# Altium footprint library Res_Panasonic_ERJ-3EKF22R0V_eec_0.PcbLib: 1 footprints
Each footprint in its own frame and in the unit in brackets; x right, y up, seen from the top. Pads: shape width x height; smd on the part's side, far side on the other; paste and mask are expansions set on the pad; w line width, h text height; cw(c..) or ccw(c..) is an arc to the next point about the centre after c.
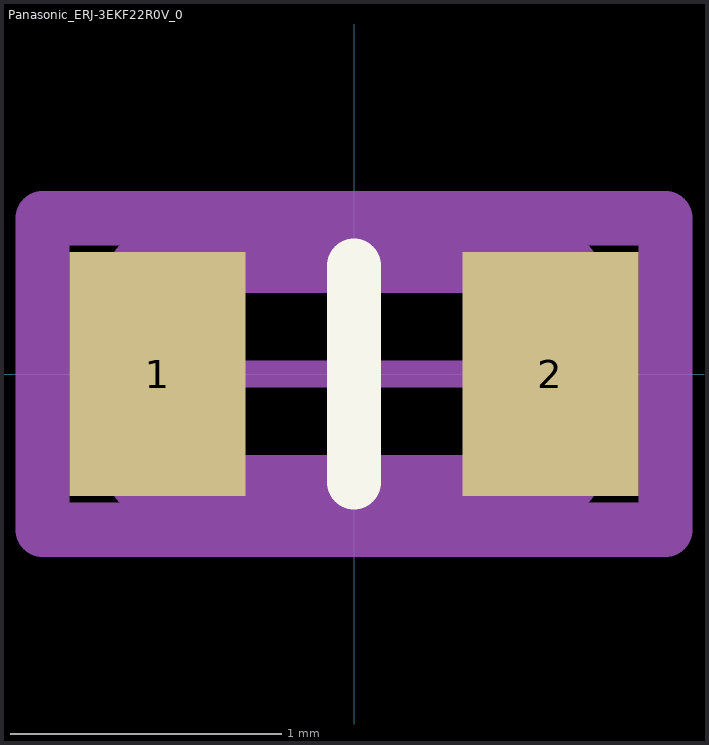
[diagram p0: the footprint, top view; thin cyan lines are the x and y axes]

## Panasonic_ERJ-3EKF22R0V_0 [mm]
pads (2):
  rect 0.65x0.9 smd paste+0 mask+0: 1(-0.725,0) 2(0.725,0)
Top Overlay:
  lines w0.2: 0,-0.4 0,0.4
Mechanical 10:
  lines w0.2: -1.15,-0.575 1.15,-0.575 1.15,0.575 -1.15,0.575 -1.15,-0.575
  text ".Designator" at 0,0 h1
Mechanical 12:
  lines w0.2: -0.8,-0.4 0.8,-0.4 0.8,0.4 -0.8,0.4 -0.8,-0.4
Mechanical 15:
  lines w0.1: -0.5,0 0.5,0 ; 0,-0.5 0,0.5
  lines w0.2: -1.15,-0.575 1.15,-0.575 1.15,0.575 -1.15,0.575 -1.15,-0.575
3D body "Res_Panasonic_ERJ-3EKF22R0V_eec.STEP": height 0.25, standoff 0, extent -1.15,-0.575 1.15,0.575